# Altium integrated library Linear Technology Power Management LDO Linear Regulators.IntLib: 2339 symbols (part 102 of 131)
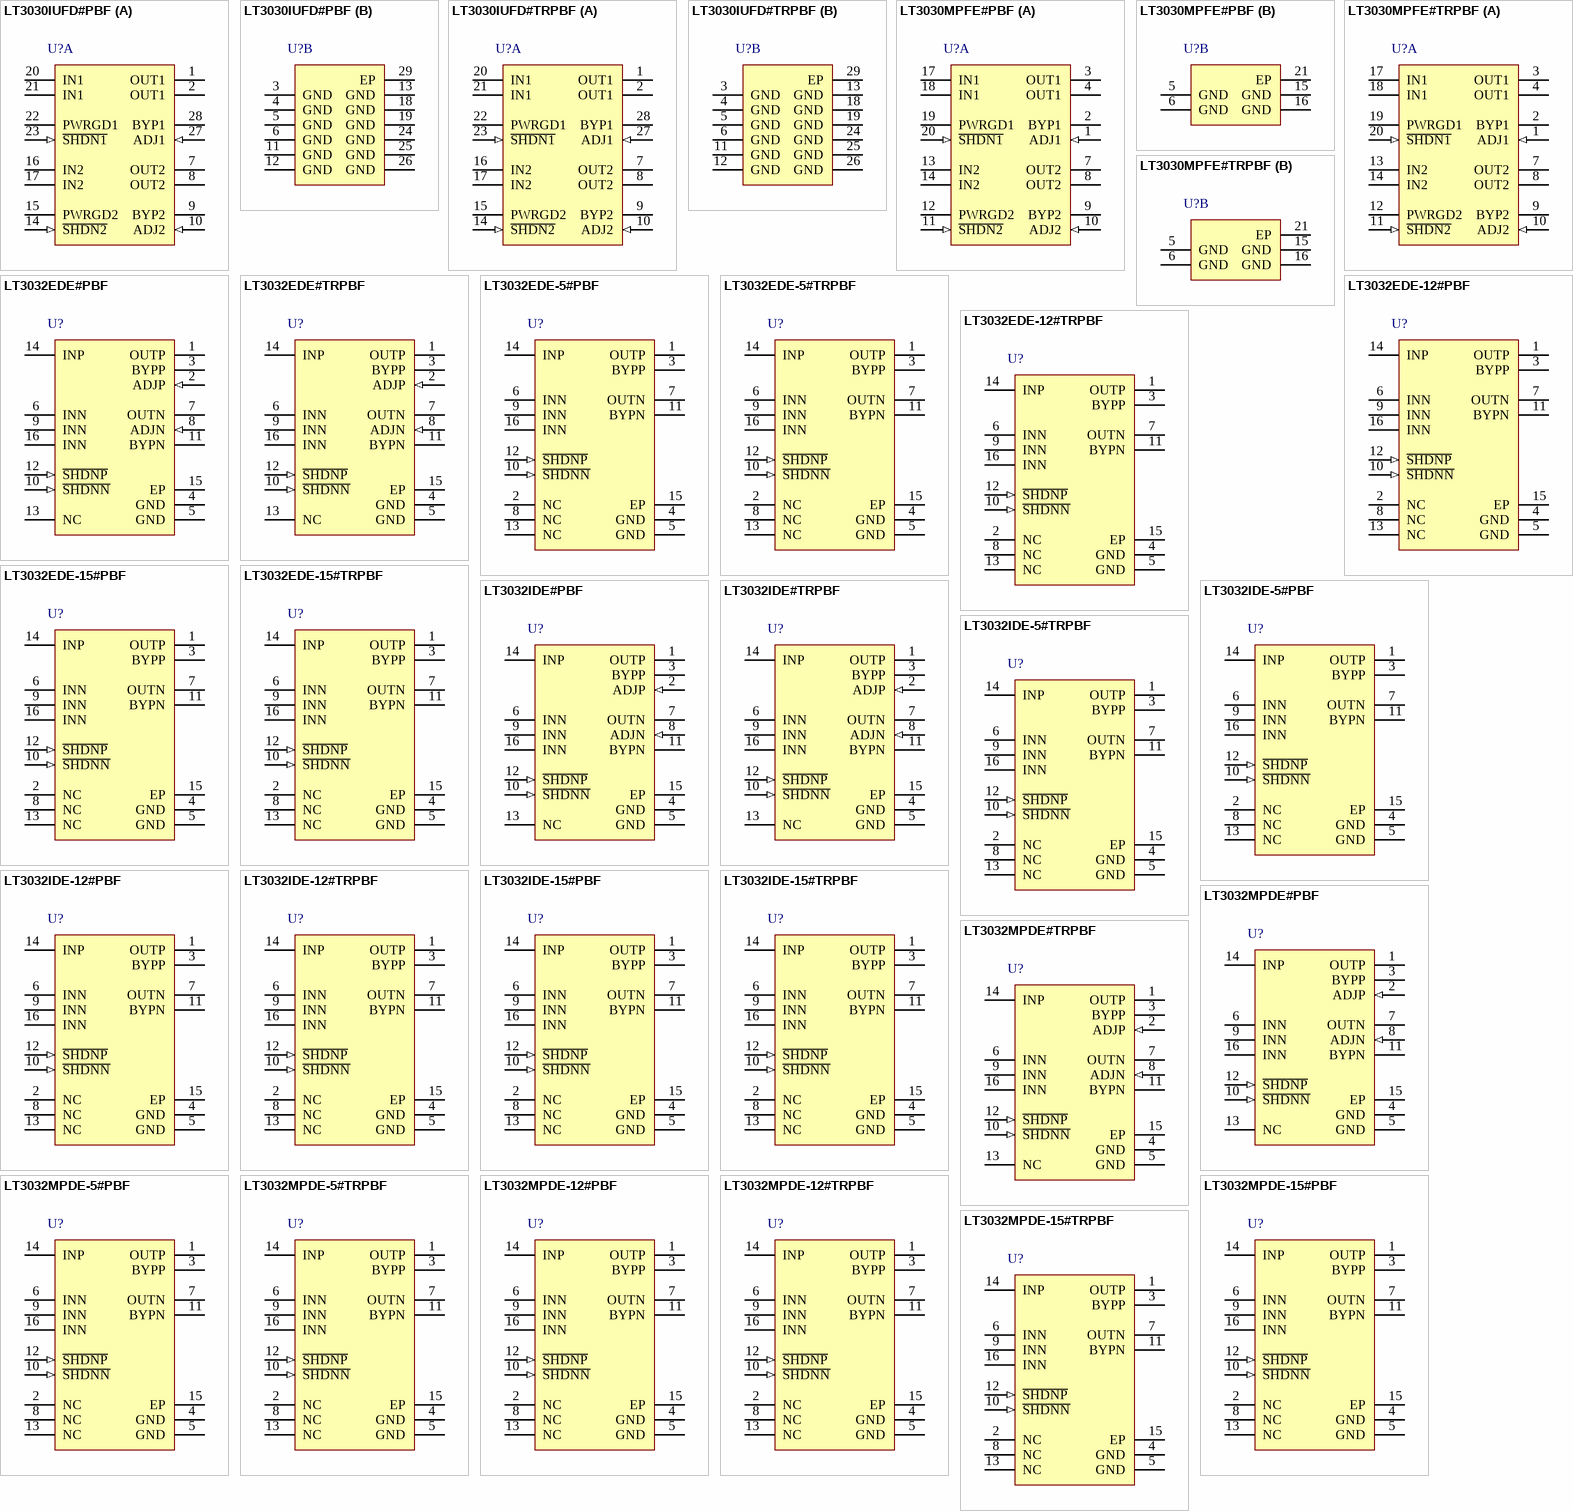
[diagram p170: symbols LT3030IUFD#PBF to LT3032MPDE-15#TRPBF]

## LT3030IUFD#PBF
designator U?
Dual 750 mA / 250 mA Low Dropout, Low Noise, Micropower Linear Regulator, 1.7 to 20 V Vin, Adjustable Vout, 28-pin QFN (UFD-28), -40 to 125 degC, Pb-Free; Manufacturer: Linear Technology; PartNumber: LT3030IUFD#PBF; Discrete Pass Element: no; Dropout Voltage(V): 0.3; Iout(mA): 750; Isupply(mA): 15; Noise(uV): 20; Number of Outputs: 2; Output Voltage: Adj; PSRR(dB): 60; Vin Min(V): 1.7; Vout Max(V): 19.5; Vout Min(V): 1.22; DatasheetVersion: Rev. A; PackageVersion: Rev. B, 06/2010; PackageReference: UFD-28; PackageDescription: 28-Pin Plastic QFN, Body 5 x 4 mm, Pitch 0.5 mm; Supplier 1: Digi-Key; Supplier Part Number 1: LT3030IUFD#PBF-ND; Supplier 2: Farnell; Supplier Part Number 2: 2313419; Supplier 3: Newark; Supplier Part Number 3: 71W8569; RoHS: TRUE; Shutdown Current(uA): 0.3; Vin Max(V): 20; Mounting Technology: Surface Mount; Code_JEDEC: MO-220; ComponentLink1Description: Manufacturer URL; ComponentLink1URL: http://www.linear.com/; ComponentLink2Description: Datasheet; ComponentLink2URL: http://cds.linear.com/docs/en/datasheet/3030fa.pdf; ComponentLink3Description: Package Specification; ComponentLink3URL: http://cds.linear.com/docs/en/packaging/QFN_28_05-08-1712.pdf
footprint LT-UFD-28_N (QFN, 28-Leads, Body 5x4mm, Pitch 0.5mm, Thermal Pad 3.65x2.65mm, IPC Medium Density)
footprint LT-UFD-28_L (QFN, 28-Leads, Body 5x4mm, Pitch 0.5mm, Thermal Pad 3.65x2.65mm, IPC High Density)
footprint LT-UFD-28_M (QFN, 28-Leads, Body 5x4mm, Pitch 0.5mm, Thermal Pad 3.65x2.65mm, IPC Low Density)
part A pins: 1 OUT1 (power) "Output. The OUT1/OUT2 pins supply power to the loads. A minimum 10uF/3.3uF output capacitor prevents oscillations on OUT1/OUT2. Applications with large output load transients require larger values of output capacitance to (See Datasheet)", 2 OUT1 (power) "Output. The OUT1/OUT2 pins supply power to the loads. A minimum 10uF/3.3uF output capacitor prevents oscillations on OUT1/OUT2. Applications with large output load transients require larger values of output capacitance to (See Datasheet)", 7 OUT2 (power) "Output. The OUT1/OUT2 pins supply power to the loads. A minimum 10uF/3.3uF output capacitor prevents oscillations on OUT1/OUT2. Applications with large output load transients require larger values of output capacitance to (See Datasheet)", 8 OUT2 (power) "Output. The OUT1/OUT2 pins supply power to the loads. A minimum 10uF/3.3uF output capacitor prevents oscillations on OUT1/OUT2. Applications with large output load transients require larger values of output capacitance to (See Datasheet)", 9 BYP2 "Bypass. Connecting a capacitor between OUT and BYP of a respective channel bypasses the LT3030 reference to achieve low noise performance, improve transient response and soft-start the output. Internal circuitry clamps the (See Datasheet)", 10 ADJ2 (in) "Adjust Pin. These are the error amplifier inputs. These pins are internally clamped to +/-9V. A typical input bias current of 30nA flows into the pins (see curve of ADJ1/ADJ2 Pin Bias Current vs Temperature in the Typical (See Datasheet)", 14 ~{SHDN2} (in) "Shutdown. Pulling the S\H\D\N\1\ or S\H\D\N\2\ pin low puts its corresponding LT3030 channel into a low power state and turns its output off. The S\H\D\N\1\ and S\H\D\N\2\ pins are completely independent of each other, and (See Datasheet)", 15 PWRGD2 (hiz) "Power Good. The PWRGD flag is an open-collector flag to indicate that the output voltage has increased above 90% of the nominal output voltage. There is no internal pull-up on this pin; a pull-up resistor must be used. The (See Datasheet)", 16 IN2 (power) "Input. The IN1/IN2 pins supply power to each channel. The LT3030 requires a bypass capacitor at the IN1/IN2 pins if located more than six inches away from the main input filter capacitor. Include a bypass capacitor in (See Datasheet)", 17 IN2 (power) "Input. The IN1/IN2 pins supply power to each channel. The LT3030 requires a bypass capacitor at the IN1/IN2 pins if located more than six inches away from the main input filter capacitor. Include a bypass capacitor in (See Datasheet)", 20 IN1 (power) "Input. The IN1/IN2 pins supply power to each channel. The LT3030 requires a bypass capacitor at the IN1/IN2 pins if located more than six inches away from the main input filter capacitor. Include a bypass capacitor in (See Datasheet)", 21 IN1 (power) "Input. The IN1/IN2 pins supply power to each channel. The LT3030 requires a bypass capacitor at the IN1/IN2 pins if located more than six inches away from the main input filter capacitor. Include a bypass capacitor in (See Datasheet)", 22 PWRGD1 (hiz) "Power Good. The PWRGD flag is an open-collector flag to indicate that the output voltage has increased above 90% of the nominal output voltage. There is no internal pull-up on this pin; a pull-up resistor must be used. The (See Datasheet)", 23 ~{SHDN1} (in) "Shutdown. Pulling the S\H\D\N\1\ or S\H\D\N\2\ pin low puts its corresponding LT3030 channel into a low power state and turns its output off. The S\H\D\N\1\ and S\H\D\N\2\ pins are completely independent of each other, and (See Datasheet)", 27 ADJ1 (in) "Adjust Pin. These are the error amplifier inputs. These pins are internally clamped to +/-9V. A typical input bias current of 30nA flows into the pins (see curve of ADJ1/ADJ2 Pin Bias Current vs Temperature in the Typical (See Datasheet)", 28 BYP1 "Bypass. Connecting a capacitor between OUT and BYP of a respective channel bypasses the LT3030 reference to achieve low noise performance, improve transient response and soft-start the output. Internal circuitry clamps the (See Datasheet)"
part B pins: 3 GND (power) "Ground. The exposed pad (backside) of the QFN and TSSOP packages is an electrical connection to GND. To ensure proper electrical and thermal performance, solder the exposed pad to the PCB ground and tie directly to GND pins. (See Datasheet)", 4 GND (power) "Ground. The exposed pad (backside) of the QFN and TSSOP packages is an electrical connection to GND. To ensure proper electrical and thermal performance, solder the exposed pad to the PCB ground and tie directly to GND pins. (See Datasheet)", 5 GND (power) "Ground. The exposed pad (backside) of the QFN and TSSOP packages is an electrical connection to GND. To ensure proper electrical and thermal performance, solder the exposed pad to the PCB ground and tie directly to GND pins. (See Datasheet)", 6 GND (power) "Ground. The exposed pad (backside) of the QFN and TSSOP packages is an electrical connection to GND. To ensure proper electrical and thermal performance, solder the exposed pad to the PCB ground and tie directly to GND pins. (See Datasheet)", 11 GND (power) "Ground. The exposed pad (backside) of the QFN and TSSOP packages is an electrical connection to GND. To ensure proper electrical and thermal performance, solder the exposed pad to the PCB ground and tie directly to GND pins. (See Datasheet)", 12 GND (power) "Ground. The exposed pad (backside) of the QFN and TSSOP packages is an electrical connection to GND. To ensure proper electrical and thermal performance, solder the exposed pad to the PCB ground and tie directly to GND pins. (See Datasheet)", 13 GND (power) "Ground. The exposed pad (backside) of the QFN and TSSOP packages is an electrical connection to GND. To ensure proper electrical and thermal performance, solder the exposed pad to the PCB ground and tie directly to GND pins. (See Datasheet)", 18 GND (power) "Ground. The exposed pad (backside) of the QFN and TSSOP packages is an electrical connection to GND. To ensure proper electrical and thermal performance, solder the exposed pad to the PCB ground and tie directly to GND pins. (See Datasheet)", 19 GND (power) "Ground. The exposed pad (backside) of the QFN and TSSOP packages is an electrical connection to GND. To ensure proper electrical and thermal performance, solder the exposed pad to the PCB ground and tie directly to GND pins. (See Datasheet)", 24 GND (power) "Ground. The exposed pad (backside) of the QFN and TSSOP packages is an electrical connection to GND. To ensure proper electrical and thermal performance, solder the exposed pad to the PCB ground and tie directly to GND pins. (See Datasheet)", 25 GND (power) "Ground. The exposed pad (backside) of the QFN and TSSOP packages is an electrical connection to GND. To ensure proper electrical and thermal performance, solder the exposed pad to the PCB ground and tie directly to GND pins. (See Datasheet)", 26 GND (power) "Ground. The exposed pad (backside) of the QFN and TSSOP packages is an electrical connection to GND. To ensure proper electrical and thermal performance, solder the exposed pad to the PCB ground and tie directly to GND pins. (See Datasheet)", 29 EP (power) "Ground. The exposed pad (backside) of the QFN and TSSOP packages is an electrical connection to GND. To ensure proper electrical and thermal performance, solder the exposed pad to the PCB ground and tie directly to GND pins. (See Datasheet)"

## LT3030IUFD#TRPBF
designator U?
Dual 750 mA / 250 mA Low Dropout, Low Noise, Micropower Linear Regulator, 1.7 to 20 V Vin, Adjustable Vout, 28-pin QFN (UFD-28), -40 to 125 degC, Pb-Free, Tape and Reel; Manufacturer: Linear Technology; PartNumber: LT3030IUFD#TRPBF; Discrete Pass Element: no; Dropout Voltage(V): 0.3; Iout(mA): 750; Isupply(mA): 15; Noise(uV): 20; Number of Outputs: 2; Output Voltage: Adj; PSRR(dB): 60; Vin Min(V): 1.7; Vout Max(V): 19.5; Vout Min(V): 1.22; DatasheetVersion: Rev. A; PackageVersion: Rev. B, 06/2010; PackageReference: UFD-28; PackageDescription: 28-Pin Plastic QFN, Body 5 x 4 mm, Pitch 0.5 mm; Supplier 1: Digi-Key; Supplier Part Number 1: LT3030IUFD#TRPBF-ND; Supplier 2: Newark; Supplier Part Number 2: 71W8570; Packing: Tape and Reel; RoHS: TRUE; Shutdown Current(uA): 0.3; Vin Max(V): 20; Mounting Technology: Surface Mount; Code_JEDEC: MO-220; ComponentLink1Description: Manufacturer URL; ComponentLink1URL: http://www.linear.com/; ComponentLink2Description: Datasheet; ComponentLink2URL: http://cds.linear.com/docs/en/datasheet/3030fa.pdf; ComponentLink3Description: Package Specification; ComponentLink3URL: http://cds.linear.com/docs/en/packaging/QFN_28_05-08-1712.pdf
footprint LT-UFD-28_N (QFN, 28-Leads, Body 5x4mm, Pitch 0.5mm, Thermal Pad 3.65x2.65mm, IPC Medium Density)
footprint LT-UFD-28_L (QFN, 28-Leads, Body 5x4mm, Pitch 0.5mm, Thermal Pad 3.65x2.65mm, IPC High Density)
footprint LT-UFD-28_M (QFN, 28-Leads, Body 5x4mm, Pitch 0.5mm, Thermal Pad 3.65x2.65mm, IPC Low Density)
part A pins: 1 OUT1 (power) "Output. The OUT1/OUT2 pins supply power to the loads. A minimum 10uF/3.3uF output capacitor prevents oscillations on OUT1/OUT2. Applications with large output load transients require larger values of output capacitance to (See Datasheet)", 2 OUT1 (power) "Output. The OUT1/OUT2 pins supply power to the loads. A minimum 10uF/3.3uF output capacitor prevents oscillations on OUT1/OUT2. Applications with large output load transients require larger values of output capacitance to (See Datasheet)", 7 OUT2 (power) "Output. The OUT1/OUT2 pins supply power to the loads. A minimum 10uF/3.3uF output capacitor prevents oscillations on OUT1/OUT2. Applications with large output load transients require larger values of output capacitance to (See Datasheet)", 8 OUT2 (power) "Output. The OUT1/OUT2 pins supply power to the loads. A minimum 10uF/3.3uF output capacitor prevents oscillations on OUT1/OUT2. Applications with large output load transients require larger values of output capacitance to (See Datasheet)", 9 BYP2 "Bypass. Connecting a capacitor between OUT and BYP of a respective channel bypasses the LT3030 reference to achieve low noise performance, improve transient response and soft-start the output. Internal circuitry clamps the (See Datasheet)", 10 ADJ2 (in) "Adjust Pin. These are the error amplifier inputs. These pins are internally clamped to +/-9V. A typical input bias current of 30nA flows into the pins (see curve of ADJ1/ADJ2 Pin Bias Current vs Temperature in the Typical (See Datasheet)", 14 ~{SHDN2} (in) "Shutdown. Pulling the S\H\D\N\1\ or S\H\D\N\2\ pin low puts its corresponding LT3030 channel into a low power state and turns its output off. The S\H\D\N\1\ and S\H\D\N\2\ pins are completely independent of each other, and (See Datasheet)", 15 PWRGD2 (hiz) "Power Good. The PWRGD flag is an open-collector flag to indicate that the output voltage has increased above 90% of the nominal output voltage. There is no internal pull-up on this pin; a pull-up resistor must be used. The (See Datasheet)", 16 IN2 (power) "Input. The IN1/IN2 pins supply power to each channel. The LT3030 requires a bypass capacitor at the IN1/IN2 pins if located more than six inches away from the main input filter capacitor. Include a bypass capacitor in (See Datasheet)", 17 IN2 (power) "Input. The IN1/IN2 pins supply power to each channel. The LT3030 requires a bypass capacitor at the IN1/IN2 pins if located more than six inches away from the main input filter capacitor. Include a bypass capacitor in (See Datasheet)", 20 IN1 (power) "Input. The IN1/IN2 pins supply power to each channel. The LT3030 requires a bypass capacitor at the IN1/IN2 pins if located more than six inches away from the main input filter capacitor. Include a bypass capacitor in (See Datasheet)", 21 IN1 (power) "Input. The IN1/IN2 pins supply power to each channel. The LT3030 requires a bypass capacitor at the IN1/IN2 pins if located more than six inches away from the main input filter capacitor. Include a bypass capacitor in (See Datasheet)", 22 PWRGD1 (hiz) "Power Good. The PWRGD flag is an open-collector flag to indicate that the output voltage has increased above 90% of the nominal output voltage. There is no internal pull-up on this pin; a pull-up resistor must be used. The (See Datasheet)", 23 ~{SHDN1} (in) "Shutdown. Pulling the S\H\D\N\1\ or S\H\D\N\2\ pin low puts its corresponding LT3030 channel into a low power state and turns its output off. The S\H\D\N\1\ and S\H\D\N\2\ pins are completely independent of each other, and (See Datasheet)", 27 ADJ1 (in) "Adjust Pin. These are the error amplifier inputs. These pins are internally clamped to +/-9V. A typical input bias current of 30nA flows into the pins (see curve of ADJ1/ADJ2 Pin Bias Current vs Temperature in the Typical (See Datasheet)", 28 BYP1 "Bypass. Connecting a capacitor between OUT and BYP of a respective channel bypasses the LT3030 reference to achieve low noise performance, improve transient response and soft-start the output. Internal circuitry clamps the (See Datasheet)"
part B pins: 3 GND (power) "Ground. The exposed pad (backside) of the QFN and TSSOP packages is an electrical connection to GND. To ensure proper electrical and thermal performance, solder the exposed pad to the PCB ground and tie directly to GND pins. (See Datasheet)", 4 GND (power) "Ground. The exposed pad (backside) of the QFN and TSSOP packages is an electrical connection to GND. To ensure proper electrical and thermal performance, solder the exposed pad to the PCB ground and tie directly to GND pins. (See Datasheet)", 5 GND (power) "Ground. The exposed pad (backside) of the QFN and TSSOP packages is an electrical connection to GND. To ensure proper electrical and thermal performance, solder the exposed pad to the PCB ground and tie directly to GND pins. (See Datasheet)", 6 GND (power) "Ground. The exposed pad (backside) of the QFN and TSSOP packages is an electrical connection to GND. To ensure proper electrical and thermal performance, solder the exposed pad to the PCB ground and tie directly to GND pins. (See Datasheet)", 11 GND (power) "Ground. The exposed pad (backside) of the QFN and TSSOP packages is an electrical connection to GND. To ensure proper electrical and thermal performance, solder the exposed pad to the PCB ground and tie directly to GND pins. (See Datasheet)", 12 GND (power) "Ground. The exposed pad (backside) of the QFN and TSSOP packages is an electrical connection to GND. To ensure proper electrical and thermal performance, solder the exposed pad to the PCB ground and tie directly to GND pins. (See Datasheet)", 13 GND (power) "Ground. The exposed pad (backside) of the QFN and TSSOP packages is an electrical connection to GND. To ensure proper electrical and thermal performance, solder the exposed pad to the PCB ground and tie directly to GND pins. (See Datasheet)", 18 GND (power) "Ground. The exposed pad (backside) of the QFN and TSSOP packages is an electrical connection to GND. To ensure proper electrical and thermal performance, solder the exposed pad to the PCB ground and tie directly to GND pins. (See Datasheet)", 19 GND (power) "Ground. The exposed pad (backside) of the QFN and TSSOP packages is an electrical connection to GND. To ensure proper electrical and thermal performance, solder the exposed pad to the PCB ground and tie directly to GND pins. (See Datasheet)", 24 GND (power) "Ground. The exposed pad (backside) of the QFN and TSSOP packages is an electrical connection to GND. To ensure proper electrical and thermal performance, solder the exposed pad to the PCB ground and tie directly to GND pins. (See Datasheet)", 25 GND (power) "Ground. The exposed pad (backside) of the QFN and TSSOP packages is an electrical connection to GND. To ensure proper electrical and thermal performance, solder the exposed pad to the PCB ground and tie directly to GND pins. (See Datasheet)", 26 GND (power) "Ground. The exposed pad (backside) of the QFN and TSSOP packages is an electrical connection to GND. To ensure proper electrical and thermal performance, solder the exposed pad to the PCB ground and tie directly to GND pins. (See Datasheet)", 29 EP (power) "Ground. The exposed pad (backside) of the QFN and TSSOP packages is an electrical connection to GND. To ensure proper electrical and thermal performance, solder the exposed pad to the PCB ground and tie directly to GND pins. (See Datasheet)"

## LT3030MPFE#PBF
designator U?
Dual 750 mA / 250 mA Low Dropout, Low Noise, Micropower Linear Regulator, 1.7 to 20 V Vin, Adjustable Vout, 20-pin SOP (FE-20-EPV-CB), -55 to 150 degC, Pb-Free; Manufacturer: Linear Technology; PartNumber: LT3030MPFE#PBF; Discrete Pass Element: no; Dropout Voltage(V): 0.3; Iout(mA): 750; Isupply(mA): 15; Noise(uV): 20; Number of Outputs: 2; Output Voltage: Adj; PSRR(dB): 60; Vin Min(V): 1.7; Vout Max(V): 19.5; Vout Min(V): 1.22; DatasheetVersion: Rev. A; PackageVersion: Rev. I, 05/2011; PackageReference: FE-20; PackageDescription: 20-Pin Plastic TSSOP, Body 6.5 x 4.4 mm, Pitch 0.65 mm; Supplier 1: Digi-Key; Supplier Part Number 1: LT3030MPFE#PBF-ND; Supplier 2: Farnell; Supplier Part Number 2: 2313421; Supplier 3: Newark; Supplier Part Number 3: 71W8571; RoHS: TRUE; Shutdown Current(uA): 0.3; Vin Max(V): 20; Mounting Technology: Surface Mount; ComponentLink1Description: Manufacturer URL; ComponentLink1URL: http://www.linear.com/; ComponentLink2Description: Datasheet; ComponentLink2URL: http://cds.linear.com/docs/en/datasheet/3030fa.pdf; ComponentLink3Description: Package Specification; ComponentLink3URL: http://cds.linear.com/docs/en/packaging/05081663__J_FE20(CB).pdf
footprint LT-FE-20-EPV-CB_N (SOP, 20-Leads, Body 6.6x4.5mm, Pitch 0.65mm, Thermal Pad 3.86x2.74mm, IPC Medium Density)
footprint LT-FE-20-EPV-CB_L (SOP, 20-Leads, Body 6.6x4.5mm, Pitch 0.65mm, Thermal Pad 3.86x2.74mm, IPC High Density)
footprint LT-FE-20-EPV-CB_M (SOP, 20-Leads, Body 6.6x4.5mm, Pitch 0.65mm, Thermal Pad 3.86x2.74mm, IPC Low Density)
part A pins: 1 ADJ1 (in) "Adjust Pin. These are the error amplifier inputs. These pins are internally clamped to +/-9V. A typical input bias current of 30nA flows into the pins (see curve of ADJ1/ADJ2 Pin Bias Current vs Temperature in the Typical (See Datasheet)", 2 BYP1 "Bypass. Connecting a capacitor between OUT and BYP of a respective channel bypasses the LT3030 reference to achieve low noise performance, improve transient response and soft-start the output. Internal circuitry clamps the (See Datasheet)", 3 OUT1 (power) "Output. The OUT1/OUT2 pins supply power to the loads. A minimum 10uF/3.3uF output capacitor prevents oscillations on OUT1/OUT2. Applications with large output load transients require larger values of output capacitance to (See Datasheet)", 4 OUT1 (power) "Output. The OUT1/OUT2 pins supply power to the loads. A minimum 10uF/3.3uF output capacitor prevents oscillations on OUT1/OUT2. Applications with large output load transients require larger values of output capacitance to (See Datasheet)", 7 OUT2 (power) "Output. The OUT1/OUT2 pins supply power to the loads. A minimum 10uF/3.3uF output capacitor prevents oscillations on OUT1/OUT2. Applications with large output load transients require larger values of output capacitance to (See Datasheet)", 8 OUT2 (power) "Output. The OUT1/OUT2 pins supply power to the loads. A minimum 10uF/3.3uF output capacitor prevents oscillations on OUT1/OUT2. Applications with large output load transients require larger values of output capacitance to (See Datasheet)", 9 BYP2 "Bypass. Connecting a capacitor between OUT and BYP of a respective channel bypasses the LT3030 reference to achieve low noise performance, improve transient response and soft-start the output. Internal circuitry clamps the (See Datasheet)", 10 ADJ2 (in) "Adjust Pin. These are the error amplifier inputs. These pins are internally clamped to +/-9V. A typical input bias current of 30nA flows into the pins (see curve of ADJ1/ADJ2 Pin Bias Current vs Temperature in the Typical (See Datasheet)", 11 ~{SHDN2} (in) "Shutdown. Pulling the S\H\D\N\1\ or S\H\D\N\2\ pin low puts its corresponding LT3030 channel into a low power state and turns its output off. The S\H\D\N\1\ and S\H\D\N\2\ pins are completely independent of each other, and (See Datasheet)", 12 PWRGD2 (hiz) "Power Good. The PWRGD flag is an open-collector flag to indicate that the output voltage has increased above 90% of the nominal output voltage. There is no internal pull-up on this pin; a pull-up resistor must be used. The (See Datasheet)", 13 IN2 (power) "Input. The IN1/IN2 pins supply power to each channel. The LT3030 requires a bypass capacitor at the IN1/IN2 pins if located more than six inches away from the main input filter capacitor. Include a bypass capacitor in (See Datasheet)", 14 IN2 (power) "Input. The IN1/IN2 pins supply power to each channel. The LT3030 requires a bypass capacitor at the IN1/IN2 pins if located more than six inches away from the main input filter capacitor. Include a bypass capacitor in (See Datasheet)", 17 IN1 (power) "Input. The IN1/IN2 pins supply power to each channel. The LT3030 requires a bypass capacitor at the IN1/IN2 pins if located more than six inches away from the main input filter capacitor. Include a bypass capacitor in (See Datasheet)", 18 IN1 (power) "Input. The IN1/IN2 pins supply power to each channel. The LT3030 requires a bypass capacitor at the IN1/IN2 pins if located more than six inches away from the main input filter capacitor. Include a bypass capacitor in (See Datasheet)", 19 PWRGD1 (hiz) "Power Good. The PWRGD flag is an open-collector flag to indicate that the output voltage has increased above 90% of the nominal output voltage. There is no internal pull-up on this pin; a pull-up resistor must be used. The (See Datasheet)", 20 ~{SHDN1} (in) "Shutdown. Pulling the S\H\D\N\1\ or S\H\D\N\2\ pin low puts its corresponding LT3030 channel into a low power state and turns its output off. The S\H\D\N\1\ and S\H\D\N\2\ pins are completely independent of each other, and (See Datasheet)"
part B pins: 5 GND (power) "Ground. The exposed pad (backside) of the QFN and TSSOP packages is an electrical connection to GND. To ensure proper electrical and thermal performance, solder the exposed pad to the PCB ground and tie directly to GND pins. (See Datasheet)", 6 GND (power) "Ground. The exposed pad (backside) of the QFN and TSSOP packages is an electrical connection to GND. To ensure proper electrical and thermal performance, solder the exposed pad to the PCB ground and tie directly to GND pins. (See Datasheet)", 15 GND (power) "Ground. The exposed pad (backside) of the QFN and TSSOP packages is an electrical connection to GND. To ensure proper electrical and thermal performance, solder the exposed pad to the PCB ground and tie directly to GND pins. (See Datasheet)", 16 GND (power) "Ground. The exposed pad (backside) of the QFN and TSSOP packages is an electrical connection to GND. To ensure proper electrical and thermal performance, solder the exposed pad to the PCB ground and tie directly to GND pins. (See Datasheet)", 21 EP (power) "Ground. The exposed pad (backside) of the QFN and TSSOP packages is an electrical connection to GND. To ensure proper electrical and thermal performance, solder the exposed pad to the PCB ground and tie directly to GND pins. (See Datasheet)"

## LT3030MPFE#TRPBF
designator U?
Dual 750 mA / 250 mA Low Dropout, Low Noise, Micropower Linear Regulator, 1.7 to 20 V Vin, Adjustable Vout, 20-pin SOP (FE-20-EPV-CB), -55 to 150 degC, Pb-Free, Tape and Reel; Manufacturer: Linear Technology; PartNumber: LT3030MPFE#TRPBF; Discrete Pass Element: no; Dropout Voltage(V): 0.3; Iout(mA): 750; Isupply(mA): 15; Noise(uV): 20; Number of Outputs: 2; Output Voltage: Adj; PSRR(dB): 60; Vin Min(V): 1.7; Vout Max(V): 19.5; Vout Min(V): 1.22; DatasheetVersion: Rev. A; PackageVersion: Rev. I, 05/2011; PackageReference: FE-20; PackageDescription: 20-Pin Plastic TSSOP, Body 6.5 x 4.4 mm, Pitch 0.65 mm; Supplier 1: Digi-Key; Supplier Part Number 1: LT3030MPFE#TRPBF-ND; Supplier 2: Newark; Supplier Part Number 2: 71W8572; Packing: Tape and Reel; RoHS: TRUE; Shutdown Current(uA): 0.3; Vin Max(V): 20; Mounting Technology: Surface Mount; ComponentLink1Description: Manufacturer URL; ComponentLink1URL: http://www.linear.com/; ComponentLink2Description: Datasheet; ComponentLink2URL: http://cds.linear.com/docs/en/datasheet/3030fa.pdf; ComponentLink3Description: Package Specification; ComponentLink3URL: http://cds.linear.com/docs/en/packaging/05081663__J_FE20(CB).pdf
footprint LT-FE-20-EPV-CB_N (SOP, 20-Leads, Body 6.6x4.5mm, Pitch 0.65mm, Thermal Pad 3.86x2.74mm, IPC Medium Density)
footprint LT-FE-20-EPV-CB_L (SOP, 20-Leads, Body 6.6x4.5mm, Pitch 0.65mm, Thermal Pad 3.86x2.74mm, IPC High Density)
footprint LT-FE-20-EPV-CB_M (SOP, 20-Leads, Body 6.6x4.5mm, Pitch 0.65mm, Thermal Pad 3.86x2.74mm, IPC Low Density)
part A pins: 1 ADJ1 (in) "Adjust Pin. These are the error amplifier inputs. These pins are internally clamped to +/-9V. A typical input bias current of 30nA flows into the pins (see curve of ADJ1/ADJ2 Pin Bias Current vs Temperature in the Typical (See Datasheet)", 2 BYP1 "Bypass. Connecting a capacitor between OUT and BYP of a respective channel bypasses the LT3030 reference to achieve low noise performance, improve transient response and soft-start the output. Internal circuitry clamps the (See Datasheet)", 3 OUT1 (power) "Output. The OUT1/OUT2 pins supply power to the loads. A minimum 10uF/3.3uF output capacitor prevents oscillations on OUT1/OUT2. Applications with large output load transients require larger values of output capacitance to (See Datasheet)", 4 OUT1 (power) "Output. The OUT1/OUT2 pins supply power to the loads. A minimum 10uF/3.3uF output capacitor prevents oscillations on OUT1/OUT2. Applications with large output load transients require larger values of output capacitance to (See Datasheet)", 7 OUT2 (power) "Output. The OUT1/OUT2 pins supply power to the loads. A minimum 10uF/3.3uF output capacitor prevents oscillations on OUT1/OUT2. Applications with large output load transients require larger values of output capacitance to (See Datasheet)", 8 OUT2 (power) "Output. The OUT1/OUT2 pins supply power to the loads. A minimum 10uF/3.3uF output capacitor prevents oscillations on OUT1/OUT2. Applications with large output load transients require larger values of output capacitance to (See Datasheet)", 9 BYP2 "Bypass. Connecting a capacitor between OUT and BYP of a respective channel bypasses the LT3030 reference to achieve low noise performance, improve transient response and soft-start the output. Internal circuitry clamps the (See Datasheet)", 10 ADJ2 (in) "Adjust Pin. These are the error amplifier inputs. These pins are internally clamped to +/-9V. A typical input bias current of 30nA flows into the pins (see curve of ADJ1/ADJ2 Pin Bias Current vs Temperature in the Typical (See Datasheet)", 11 ~{SHDN2} (in) "Shutdown. Pulling the S\H\D\N\1\ or S\H\D\N\2\ pin low puts its corresponding LT3030 channel into a low power state and turns its output off. The S\H\D\N\1\ and S\H\D\N\2\ pins are completely independent of each other, and (See Datasheet)", 12 PWRGD2 (hiz) "Power Good. The PWRGD flag is an open-collector flag to indicate that the output voltage has increased above 90% of the nominal output voltage. There is no internal pull-up on this pin; a pull-up resistor must be used. The (See Datasheet)", 13 IN2 (power) "Input. The IN1/IN2 pins supply power to each channel. The LT3030 requires a bypass capacitor at the IN1/IN2 pins if located more than six inches away from the main input filter capacitor. Include a bypass capacitor in (See Datasheet)", 14 IN2 (power) "Input. The IN1/IN2 pins supply power to each channel. The LT3030 requires a bypass capacitor at the IN1/IN2 pins if located more than six inches away from the main input filter capacitor. Include a bypass capacitor in (See Datasheet)", 17 IN1 (power) "Input. The IN1/IN2 pins supply power to each channel. The LT3030 requires a bypass capacitor at the IN1/IN2 pins if located more than six inches away from the main input filter capacitor. Include a bypass capacitor in (See Datasheet)", 18 IN1 (power) "Input. The IN1/IN2 pins supply power to each channel. The LT3030 requires a bypass capacitor at the IN1/IN2 pins if located more than six inches away from the main input filter capacitor. Include a bypass capacitor in (See Datasheet)", 19 PWRGD1 (hiz) "Power Good. The PWRGD flag is an open-collector flag to indicate that the output voltage has increased above 90% of the nominal output voltage. There is no internal pull-up on this pin; a pull-up resistor must be used. The (See Datasheet)", 20 ~{SHDN1} (in) "Shutdown. Pulling the S\H\D\N\1\ or S\H\D\N\2\ pin low puts its corresponding LT3030 channel into a low power state and turns its output off. The S\H\D\N\1\ and S\H\D\N\2\ pins are completely independent of each other, and (See Datasheet)"
part B pins: 5 GND (power) "Ground. The exposed pad (backside) of the QFN and TSSOP packages is an electrical connection to GND. To ensure proper electrical and thermal performance, solder the exposed pad to the PCB ground and tie directly to GND pins. (See Datasheet)", 6 GND (power) "Ground. The exposed pad (backside) of the QFN and TSSOP packages is an electrical connection to GND. To ensure proper electrical and thermal performance, solder the exposed pad to the PCB ground and tie directly to GND pins. (See Datasheet)", 15 GND (power) "Ground. The exposed pad (backside) of the QFN and TSSOP packages is an electrical connection to GND. To ensure proper electrical and thermal performance, solder the exposed pad to the PCB ground and tie directly to GND pins. (See Datasheet)", 16 GND (power) "Ground. The exposed pad (backside) of the QFN and TSSOP packages is an electrical connection to GND. To ensure proper electrical and thermal performance, solder the exposed pad to the PCB ground and tie directly to GND pins. (See Datasheet)", 21 EP (power) "Ground. The exposed pad (backside) of the QFN and TSSOP packages is an electrical connection to GND. To ensure proper electrical and thermal performance, solder the exposed pad to the PCB ground and tie directly to GND pins. (See Datasheet)"

## LT3032EDE#PBF
designator U?
Dual 150 mA Positive / Negative Low Noise Low Dropout Linear Regulator, +/-2.3 to +/-20 V Vin, Adjustable Vout, 14-pin SON (DE14MA-14), -40 to 125 degC, Pb-Free; Manufacturer: Linear Technology; PartNumber: LT3032EDE#PBF; Discrete Pass Element: no; Dropout Voltage(V): 0.3; Iout(mA): 150; Isupply(mA): 0.025; Noise(uV): 30; Number of Outputs: 2; Output Voltage: Adj,-Adj; PSRR(dB): 68; Shutdown Current(uA): 0.1; Vout Min(V): +/-1.22; DatasheetVersion: Rev. D; PackageVersion: Rev. A, 06/2010; PackageReference: DE14MA-14; PackageDescription: 14-Pin Plastic DFN, Body 4 x 3 mm, Pitch 0.5 mm; Supplier 1: Digi-Key; Supplier Part Number 1: LT3032EDE#PBF-ND; Supplier 2: Farnell; Supplier Part Number 2: 2289423; Supplier 3: Newark; Supplier Part Number 3: 52R9875; RoHS: TRUE; Vin Max(V): +/-20; Vin Min(V): +/-2.3; Vout Max(V): +/-20; Mounting Technology: Surface Mount; ComponentLink1Description: Manufacturer URL; ComponentLink1URL: http://www.linear.com/; ComponentLink2Description: Datasheet; ComponentLink2URL: http://cds.linear.com/docs/en/datasheet/3032fd.pdf; ComponentLink3Description: Package Specification; ComponentLink3URL: http://cds.linear.com/docs/en/packaging/DFN_14_05-08-1731.pdf
footprint LT-DE14MA-14_V (DE14MA, 14-Leads, Body 4x3mm, Pitch 0.5mm)
pins: 1 OUTP (power) "Positive Output. This output supplies power to the positive side load. A minimum output capacitor of 2.2uF is required to prevent oscillations. Larger output capacitors are required for applications with large transient (See Datasheet)", 2 ADJP (in) "Positive Adjust. This is the input to the positive side error amplifier. This pin is internally clamped to +/-7V. It has a typical bias current of 30nA which flows into the pin (see curve of ADJP Pin Bias Current vs (See Datasheet)", 3 BYPP "Positive Bypass. The BYPP pin is used to bypass the reference of the positive side regulator to achieve low noise performance. The BYPP pin is clamped internally to +/-0.6V (one VBE). A small capacitor from OUTP to this pin (See Datasheet)", 4 GND (power) "Ground. One of the DFN's exposed backside pads (Pin 15) is an electrical connection to ground. To ensure proper electrical and thermal performance, solder Pin 15 to the PCB's ground and tie directly to Pins 4 and(See Datasheet)", 5 GND (power) "Ground. One of the DFN's exposed backside pads (Pin 15) is an electrical connection to ground. To ensure proper electrical and thermal performance, solder Pin 15 to the PCB's ground and tie directly to Pins 4 and(See Datasheet)", 6 INN (power) "Negative Input. The DFN package's second exposed backside pad (Pin 16) is an electrical connection to INN. To ensure proper electrical and thermal performance, solder Pin 16 to the PCB's negative input supply and (See Datasheet)", 7 OUTN (power) "Negative Output. This output supplies power to the negative side load. A minimum output capacitor of 1uF is required to prevent oscillations. Larger output capacitors are required for applications with large transient loads (See Datasheet)", 8 ADJN (in) "Negative Adjust. This is the input to the negative side error amplifier. The ADJN pin has a typical bias current of 30nA that flows out of the pin. The ADJN pin voltage is -1.22V referenced to ground, and the output voltage (See Datasheet)", 9 INN (power) "Negative Input. The DFN package's second exposed backside pad (Pin 16) is an electrical connection to INN. To ensure proper electrical and thermal performance, solder Pin 16 to the PCB's negative input supply and (See Datasheet)", 10 ~{SHDNN} (in) "Negative Shutdown. The S\H\D\N\N\ pin puts the negative side into a low power shutdown state. The S\H\D\N\N\ pin is referenced to ground for regulator control, allowing the negative side to be driven by either positive or (See Datasheet)", 11 BYPN "Negative Bypass. The BYPN pin is used to bypass the reference of the negative side regulator to achieve low noise performance. A small capacitor from OUTN to this pin will bypass the reference to lower the output voltage (See Datasheet)", 12 ~{SHDNP} (in) "Positive Shutdown. The S\H\D\N\P\ pin puts the positive side into a low power shutdown state. The positive output will be off when the S\H\D\N\P\ pin is pulled below 0.6V(typical). The S\H\D\N\P\ pin can be driven by 5V (See Datasheet)", 13 NC "No Connect. The No Connect pin has no connection to internal circuitry and may be tied to INP, GND, INN, S\H\D\N\P\, S\H\D\N\N\, OUTP, OUTN, floated, or tied to any other point.", 14 INP (power) "Positive Input. Power is supplied to the positive side of the LT3032 through the INP pin. A bypass capacitor is required on this pin if it is more than six inches away from the main input filter capacitor. In general, the (See Datasheet)", 15 EP (power) "Ground. One of the DFN's exposed backside pads (Pin 15) is an electrical connection to ground. To ensure proper electrical and thermal performance, solder Pin 15 to the PCB's ground and tie directly to Pins 4 and(See Datasheet)", 16 INN (power) "Negative Input. The DFN package's second exposed backside pad (Pin 16) is an electrical connection to INN. To ensure proper electrical and thermal performance, solder Pin 16 to the PCB's negative input supply and (See Datasheet)"

## LT3032EDE#TRPBF
designator U?
Dual 150 mA Positive / Negative Low Noise Low Dropout Linear Regulator, +/-2.3 to +/-20 V Vin, Adjustable Vout, 14-pin SON (DE14MA-14), -40 to 125 degC, Pb-Free, Tape and Reel; Manufacturer: Linear Technology; PartNumber: LT3032EDE#TRPBF; Discrete Pass Element: no; Dropout Voltage(V): 0.3; Iout(mA): 150; Isupply(mA): 0.025; Noise(uV): 30; Number of Outputs: 2; Output Voltage: Adj,-Adj; PSRR(dB): 68; Shutdown Current(uA): 0.1; Vout Min(V): +/-1.22; DatasheetVersion: Rev. D; PackageVersion: Rev. A, 06/2010; PackageReference: DE14MA-14; PackageDescription: 14-Pin Plastic DFN, Body 4 x 3 mm, Pitch 0.5 mm; Supplier 1: Digi-Key; Supplier Part Number 1: LT3032EDE#TRPBF-ND; Supplier 2: Newark; Supplier Part Number 2: 72R5792; Packing: Tape and Reel; RoHS: TRUE; Vin Max(V): +/-20; Vin Min(V): +/-2.3; Vout Max(V): +/-20; Mounting Technology: Surface Mount; ComponentLink1Description: Manufacturer URL; ComponentLink1URL: http://www.linear.com/; ComponentLink2Description: Datasheet; ComponentLink2URL: http://cds.linear.com/docs/en/datasheet/3032fd.pdf; ComponentLink3Description: Package Specification; ComponentLink3URL: http://cds.linear.com/docs/en/packaging/DFN_14_05-08-1731.pdf
footprint LT-DE14MA-14_V (DE14MA, 14-Leads, Body 4x3mm, Pitch 0.5mm)
pins: 1 OUTP (power) "Positive Output. This output supplies power to the positive side load. A minimum output capacitor of 2.2uF is required to prevent oscillations. Larger output capacitors are required for applications with large transient (See Datasheet)", 2 ADJP (in) "Positive Adjust. This is the input to the positive side error amplifier. This pin is internally clamped to +/-7V. It has a typical bias current of 30nA which flows into the pin (see curve of ADJP Pin Bias Current vs (See Datasheet)", 3 BYPP "Positive Bypass. The BYPP pin is used to bypass the reference of the positive side regulator to achieve low noise performance. The BYPP pin is clamped internally to +/-0.6V (one VBE). A small capacitor from OUTP to this pin (See Datasheet)", 4 GND (power) "Ground. One of the DFN's exposed backside pads (Pin 15) is an electrical connection to ground. To ensure proper electrical and thermal performance, solder Pin 15 to the PCB's ground and tie directly to Pins 4 and(See Datasheet)", 5 GND (power) "Ground. One of the DFN's exposed backside pads (Pin 15) is an electrical connection to ground. To ensure proper electrical and thermal performance, solder Pin 15 to the PCB's ground and tie directly to Pins 4 and(See Datasheet)", 6 INN (power) "Negative Input. The DFN package's second exposed backside pad (Pin 16) is an electrical connection to INN. To ensure proper electrical and thermal performance, solder Pin 16 to the PCB's negative input supply and (See Datasheet)", 7 OUTN (power) "Negative Output. This output supplies power to the negative side load. A minimum output capacitor of 1uF is required to prevent oscillations. Larger output capacitors are required for applications with large transient loads (See Datasheet)", 8 ADJN (in) "Negative Adjust. This is the input to the negative side error amplifier. The ADJN pin has a typical bias current of 30nA that flows out of the pin. The ADJN pin voltage is -1.22V referenced to ground, and the output voltage (See Datasheet)", 9 INN (power) "Negative Input. The DFN package's second exposed backside pad (Pin 16) is an electrical connection to INN. To ensure proper electrical and thermal performance, solder Pin 16 to the PCB's negative input supply and (See Datasheet)", 10 ~{SHDNN} (in) "Negative Shutdown. The S\H\D\N\N\ pin puts the negative side into a low power shutdown state. The S\H\D\N\N\ pin is referenced to ground for regulator control, allowing the negative side to be driven by either positive or (See Datasheet)", 11 BYPN "Negative Bypass. The BYPN pin is used to bypass the reference of the negative side regulator to achieve low noise performance. A small capacitor from OUTN to this pin will bypass the reference to lower the output voltage (See Datasheet)", 12 ~{SHDNP} (in) "Positive Shutdown. The S\H\D\N\P\ pin puts the positive side into a low power shutdown state. The positive output will be off when the S\H\D\N\P\ pin is pulled below 0.6V(typical). The S\H\D\N\P\ pin can be driven by 5V (See Datasheet)", 13 NC "No Connect. The No Connect pin has no connection to internal circuitry and may be tied to INP, GND, INN, S\H\D\N\P\, S\H\D\N\N\, OUTP, OUTN, floated, or tied to any other point.", 14 INP (power) "Positive Input. Power is supplied to the positive side of the LT3032 through the INP pin. A bypass capacitor is required on this pin if it is more than six inches away from the main input filter capacitor. In general, the (See Datasheet)", 15 EP (power) "Ground. One of the DFN's exposed backside pads (Pin 15) is an electrical connection to ground. To ensure proper electrical and thermal performance, solder Pin 15 to the PCB's ground and tie directly to Pins 4 and(See Datasheet)", 16 INN (power) "Negative Input. The DFN package's second exposed backside pad (Pin 16) is an electrical connection to INN. To ensure proper electrical and thermal performance, solder Pin 16 to the PCB's negative input supply and (See Datasheet)"

## LT3032EDE-5#PBF
designator U?
Dual 150 mA Positive / Negative Low Noise Low Dropout Linear Regulator, +/-2.3 to +/-20 V Vin, +/-5 V Vout, 14-pin SON (DE14MA-14), -40 to 125 degC, Pb-Free; Manufacturer: Linear Technology; PartNumber: LT3032EDE-5#PBF; Discrete Pass Element: no; Dropout Voltage(V): 0.3; Iout(mA): 150; Isupply(mA): 0.025; Noise(uV): 30; Number of Outputs: 2; Output Voltage: +/-5 V; PSRR(dB): 68; Shutdown Current(uA): 0.1; DatasheetVersion: Rev. D; PackageVersion: Rev. A, 06/2010; PackageReference: DE14MA-14; PackageDescription: 14-Pin Plastic DFN, Body 4 x 3 mm, Pitch 0.5 mm; Supplier 1: Digi-Key; Supplier Part Number 1: LT3032EDE-5#PBF-ND; Supplier 2: Farnell; Supplier Part Number 2: 1847526; Supplier 3: Newark; Supplier Part Number 3: 13T4238; RoHS: TRUE; Vin Max(V): +/-20; Vin Min(V): +/-2.3; Vout Max(V): +/-5; Vout Min(V): +/-5; Mounting Technology: Surface Mount; ComponentLink1Description: Manufacturer URL; ComponentLink1URL: http://www.linear.com/; ComponentLink2Description: Datasheet; ComponentLink2URL: http://cds.linear.com/docs/en/datasheet/3032fd.pdf; ComponentLink3Description: Package Specification; ComponentLink3URL: http://cds.linear.com/docs/en/packaging/DFN_14_05-08-1731.pdf
footprint LT-DE14MA-14_V (DE14MA, 14-Leads, Body 4x3mm, Pitch 0.5mm)
pins: 1 OUTP (power) "Positive Output. This output supplies power to the positive side load. A minimum output capacitor of 2.2uF is required to prevent oscillations. Larger output capacitors are required for applications with large transient (See Datasheet)", 2 NC "No Connect. The No Connect pin has no connection to internal circuitry and may be tied to INP, GND, INN, S\H\D\N\P\, S\H\D\N\N\, OUTP, OUTN, floated, or tied to any other point.", 3 BYPP "Positive Bypass. The BYPP pin is used to bypass the reference of the positive side regulator to achieve low noise performance. The BYPP pin is clamped internally to +/-0.6V (one VBE). A small capacitor from OUTP to this pin (See Datasheet)", 4 GND (power) "Ground. One of the DFN's exposed backside pads (Pin 15) is an electrical connection to ground. To ensure proper electrical and thermal performance, solder Pin 15 to the PCB's ground and tie directly to Pins 4 and(See Datasheet)", 5 GND (power) "Ground. One of the DFN's exposed backside pads (Pin 15) is an electrical connection to ground. To ensure proper electrical and thermal performance, solder Pin 15 to the PCB's ground and tie directly to Pins 4 and(See Datasheet)", 6 INN (power) "Negative Input. The DFN package's second exposed backside pad (Pin 16) is an electrical connection to INN. To ensure proper electrical and thermal performance, solder Pin 16 to the PCB's negative input supply and (See Datasheet)", 7 OUTN (power) "Negative Output. This output supplies power to the negative side load. A minimum output capacitor of 1uF is required to prevent oscillations. Larger output capacitors are required for applications with large transient loads (See Datasheet)", 8 NC "No Connect. The No Connect pin has no connection to internal circuitry and may be tied to INP, GND, INN, S\H\D\N\P\, S\H\D\N\N\, OUTP, OUTN, floated, or tied to any other point.", 9 INN (power) "Negative Input. The DFN package's second exposed backside pad (Pin 16) is an electrical connection to INN. To ensure proper electrical and thermal performance, solder Pin 16 to the PCB's negative input supply and (See Datasheet)", 10 ~{SHDNN} (in) "Negative Shutdown. The S\H\D\N\N\ pin puts the negative side into a low power shutdown state. The S\H\D\N\N\ pin is referenced to ground for regulator control, allowing the negative side to be driven by either positive or (See Datasheet)", 11 BYPN "Negative Bypass. The BYPN pin is used to bypass the reference of the negative side regulator to achieve low noise performance. A small capacitor from OUTN to this pin will bypass the reference to lower the output voltage (See Datasheet)", 12 ~{SHDNP} (in) "Positive Shutdown. The S\H\D\N\P\ pin puts the positive side into a low power shutdown state. The positive output will be off when the S\H\D\N\P\ pin is pulled below 0.6V(typical). The S\H\D\N\P\ pin can be driven by 5V (See Datasheet)", 13 NC "No Connect. The No Connect pin has no connection to internal circuitry and may be tied to INP, GND, INN, S\H\D\N\P\, S\H\D\N\N\, OUTP, OUTN, floated, or tied to any other point.", 14 INP (power) "Positive Input. Power is supplied to the positive side of the LT3032 through the INP pin. A bypass capacitor is required on this pin if it is more than six inches away from the main input filter capacitor. In general, the (See Datasheet)", 15 EP (power) "Ground. One of the DFN's exposed backside pads (Pin 15) is an electrical connection to ground. To ensure proper electrical and thermal performance, solder Pin 15 to the PCB's ground and tie directly to Pins 4 and(See Datasheet)", 16 INN (power) "Negative Input. The DFN package's second exposed backside pad (Pin 16) is an electrical connection to INN. To ensure proper electrical and thermal performance, solder Pin 16 to the PCB's negative input supply and (See Datasheet)"